# Altium schematic symbol library USB_TypeA_Female.SchLib: 1 symbol
Pins are listed as number, name and electrical type; pins without a type are passive.

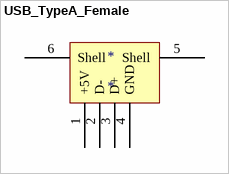
[diagram p0: symbol USB_TypeA_Female]

## USB_TypeA_Female
designator *
footprint USB_TypeA_Female
pins: 1 +5V, 2 D-, 3 D+, 4 GND, 5 Shell, 6 Shell